# EAGLE library part TC74HC4066 (library lbr_rin9147)
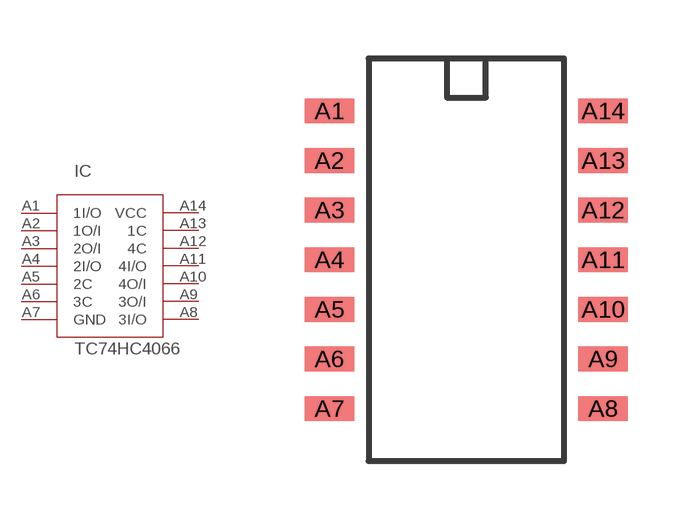
[diagram p0: symbol with the pads of TC74HC4066AF; footprint TC74HC4066AF]

Designator prefix IC

## TC74HC4066  [TC74HC4066AF]
A1  1I/O
A2  1O/I
A3  2O/I
A4  2I/O
A5  2C
A6  3C
A7  GND
A8  3I/O
A9  3O/I
A10  4O/I
A11  4I/O
A12  4C
A13  1C
A14  VCC

## Footprint TC74HC4066AF (pad centres in mm)
smd 1.27 x 0.635: A1 0,0; A2 0,-1.27; A3 0,-2.54; A4 0,-3.81; A5 0,-5.08; A6 0,-6.35; A7 0,-7.62; A8 7,-7.62; A9 7,-6.35; A10 7,-5.08; A11 7,-3.81; A12 7,-2.54; A13 7,-1.27; A14 7,0